# Altium footprint library SOT23-5-095.PcbLib: 1 footprints
Each footprint in its own frame and in the unit in brackets; x right, y up, seen from the top. Pads: shape width x height; smd on the part's side, far side on the other; paste and mask are expansions set on the pad; w line width, h text height; cw(c..) or ccw(c..) is an arc to the next point about the centre after c.
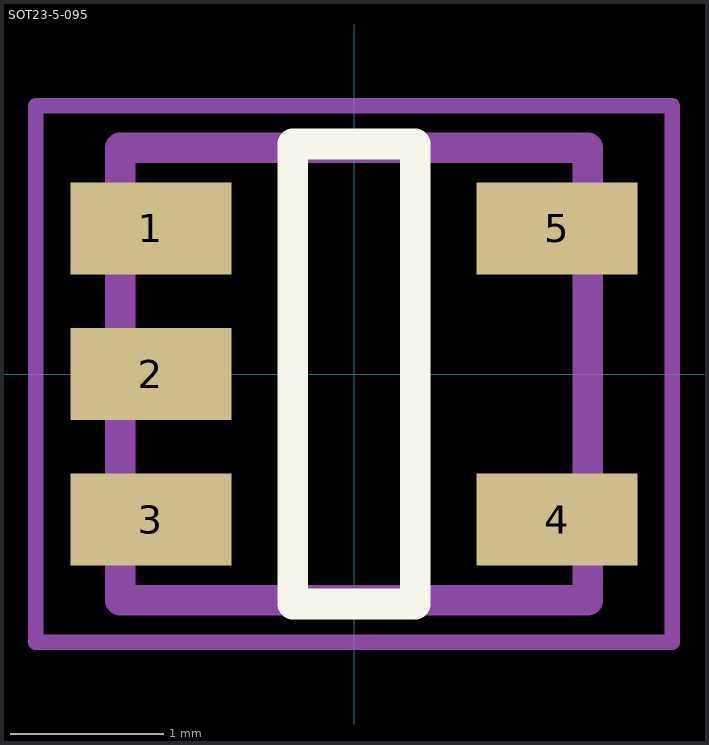
[diagram p0: the footprint, top view; thin cyan lines are the x and y axes]

## SOT23-5-095 [mm] "SOT23, 5-Leads, Body 2.95x2.80mm, Pitch 0.95mm, IPC Medium Density"
height 1.45
pads (5):
  rect 1.05x0.6 smd: 1(-1.325,0.95) 2(-1.325,0) 3(-1.325,-0.95) 4(1.325,-0.95) 5(1.325,0.95)
Top Overlay:
  lines w0.2: -0.4,-1.5 0.4,-1.5 0.4,1.5 -0.4,1.5 -0.4,-1.5
Top Assembly:
  lines w0.2: -1.524,-1.475 -1.524,1.475 1.524,1.475 1.524,-1.475 -1.524,-1.475
Top Courtyard:
  lines w0.1: -2.075,-1.75 -2.075,1.75 2.075,1.75 2.075,-1.75 -2.075,-1.75
Top Designator:
  text ".Designator" at -4.998,-0.333 h1
3D body "User Library-SOT23-5-1.step": height 1.3, standoff 0, extent -1.5,-1.5 1.5,1.5